# Altium schematic symbol library 597-3311-402F.SchLib: 1 symbol
Pins are listed as number, name and electrical type; pins without a type are passive.

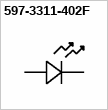
[diagram p0: symbol 597-3311-402F]

## 597-3311-402F
designator LED?  (value not drawn)
Value: *
footprint LED_597-3311-402F
pins: 1, 2